# EAGLE library part ADUM5201 (library kblom)
Dual Channel Isolators with Integrated DC-to-DC Converter Applications: RS-232/RS-422/RS-485 transceivers Industrial field bus isolation Power supply startups and gate drives Isolated sensor interfaces Industrial PLCs source <http://www.analog.com/static/imported-files/data_sheets/ADuM5200_5201_5202.pdf> iso
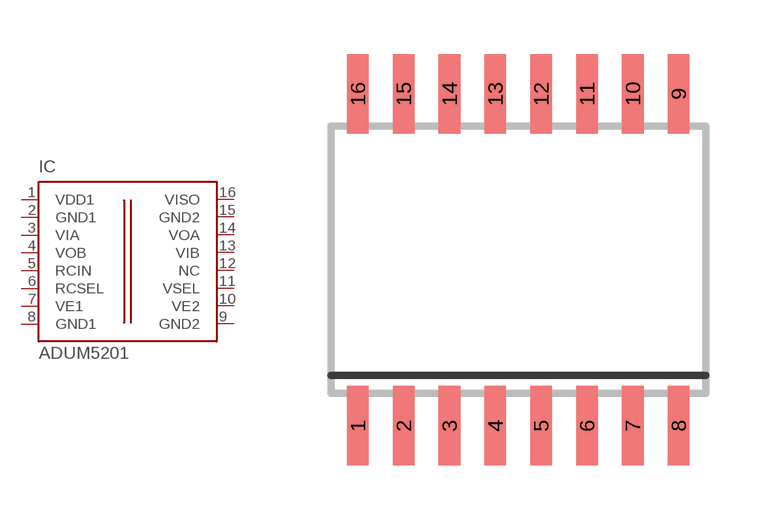
[diagram p6: symbol with the pads of SO16W; footprint SO16W]

Designator prefix IC

## ADUM5201  [SO16W]
1  VDD1  in
2  GND1  in
3  VIA  in
4  VOB  in
5  RCIN  in
6  RCSEL  nc
7  VE1  nc
8  GND1  in
9  GND2  in
10  VE2  in
11  VSEL  nc
12  NC  hiz
13  VIB  hiz
14  VOA  hiz
15  GND2  in
16  VISO  in

## Footprint SO16W (pad centres in mm)
16-Lead (Wide Body) Small Outline Package (R-16) Source: http://www.analog.com/UploadedFiles/Data_Sheets/409317160AD421_c.pdf
smd 0.6 x 2.2: 1 -4.445,-4.6; 2 -3.175,-4.6; 3 -1.905,-4.6; 4 -0.635,-4.6; 5 0.635,-4.6; 6 1.905,-4.6; 7 3.175,-4.6; 8 4.445,-4.6; 9 4.445,4.6; 10 3.175,4.6; 11 1.905,4.6; 12 0.635,4.6; 13 -0.635,4.6; 14 -1.905,4.6; 15 -3.175,4.6; 16 -4.445,4.6